# EAGLE library part AMPSEAL_8_7762XX (library TE)
TE AMPSEAL header assembly, 8 position please verify availability before specifying a header you know how these things are Right angle: Part numbers: Color Plating Part number Natural Gold 1-776280-2 DIFFERENT KEY Black Gold 1-776280-1 Natural Tin 776280-2 DIFFERENT KEY Black Tin 776280-1 Product page: http://www.te.com/catalog/bin/TE.Connect?C=10873&M=PPROP&P=153005,10008,2327&BML=&LG=1&PG=1&IDS=475336,475337,475338,516979,475342,475343,475344,475345&N=6 Drawing: http://www.te.com/commerce/DocumentDelivery/DDEController?Action=showdoc&DocId=Customer+Drawing%7F776280%7FF4%7Fpdf%7FEnglish%7FENG_CD_776280_F4.pdf%7F776280-1 Vertical: Part numbers: Color Plating Part number Natural Gold 1-776276-2 DIFFERENT KEY Black Gold 1-776276-1 Natural Tin 776276-1 Black Tin 776276-1 Product page: http://www.te.com/catalog/bin/TE.Connect?C=10873&M=PPROP&P=153005,10008,2327&BML=&LG=1&PG=1&IDS=475336,475337,475338,516979,475342,475343,475344,475345&N=1 Drawing: http://www.te.com/commerce/DocumentDelivery/DDEController?Action=showdoc&DocId=Customer+Drawing%7F776276%7FB4%7Fpdf%7FEnglish%7FENG_CD_776276_B4.pdf%7F1-776276-1
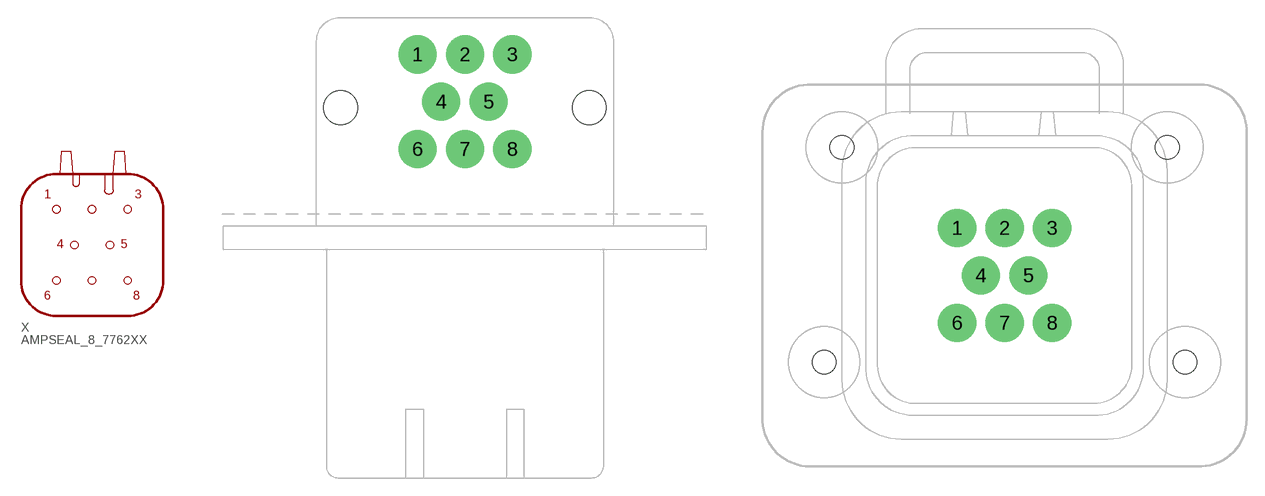
[diagram p1: symbol with the pads of 776280-6_AMPSEAL_8_RA; footprints 776280-6_AMPSEAL_8_RA, 776276-1_AMPSEAL_8_VERT]

Designator prefix X

## AMPSEAL_8_7762XX-RA (PARTNO: 776280-1)  [776280-6_AMPSEAL_8_RA]
1  1
2  2
3  3
4  4
5  5
6  6
7  7
8  8

## AMPSEAL_8_7762XX-VERT (PARTNO: 1-776276-1)  [776276-1_AMPSEAL_8_VERT]
Pads as for 776280-6_AMPSEAL_8_RA

## Footprint 776280-6_AMPSEAL_8_RA (pad centres in mm)
drill 2.2 round: 1 -4,4; 2 0,4; 3 4,4; 4 -2,0; 5 2,0; 6 -4,-4; 7 0,-4; 8 4,-4
hole 2.85 at -10.5,-0.5
hole 2.85 at 10.5,-0.5

## Footprint 776276-1_AMPSEAL_8_VERT (pad centres in mm)
TE AMPSEAL 8-position vertical PCB header, through-hole Part numbers: Color Plating Part number Natural Gold 1-776276-2 Black Gold 1-776276-2 Natural Tin 776276-1 Black Tin 776276-1 Product page: http://www.te.com/catalog/pn/en/776276-2? Drawing: http://www.te.com/commerce/DocumentDelivery/DDEController?Action=showdoc&DocId=Customer+Drawing%7F776276%7FB4%7Fpdf%7FEnglish%7FENG_CD_776276_B4.pdf%7F776276-2 god I hate TE's website
drill 2.2 round: 1 -4,4; 2 0,4; 3 4,4; 4 -2,0; 5 2,0; 6 -4,-4; 7 0,-4; 8 4,-4
hole 2 at -13.7,10.8
hole 2 at 13.7,10.8
hole 2 at -15.2,-7.3
hole 2 at 15.2,-7.3